# EAGLE library part NCV890200PDR2G (library wicked-device)
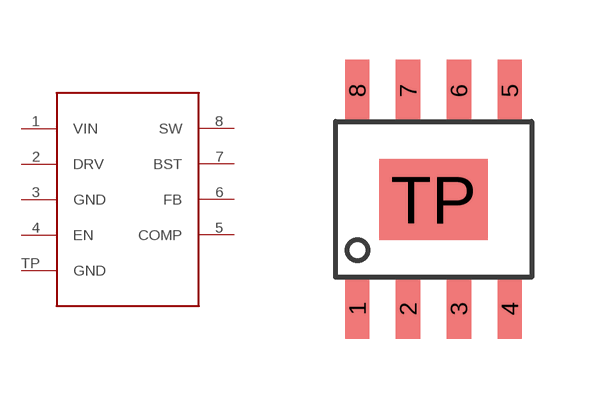
[diagram p20: symbol with the pads of NCV890200PDR2G; footprint NCV890200PDR2G]

Designator prefix -

## NCV890200PDR2G  [NCV890200PDR2G]
1  VIN
2  DRV
3  GND
4  EN
5  COMP
6  FB
7  BST
8  SW
TP  GND

## Footprint NCV890200PDR2G (pad centres in mm)
smd 0.61 x 1.524: 1 -1.905,-2.731; 2 -0.635,-2.731; 3 0.635,-2.731; 4 1.905,-2.731; 5 1.905,2.731; 6 0.635,2.731; 7 -0.635,2.731; 8 -1.905,2.731
smd 2.72 x 2.032: TP 0,0